# Altium footprint library auto_threader_lib.PcbLib: 21 footprints (part 2 of 2)
Each footprint in its own frame and in the unit in brackets; x right, y up, seen from the top. Pads: shape width x height; smd on the part's side, far side on the other; paste and mask are expansions set on the pad; w line width, h text height; cw(c..) or ccw(c..) is an arc to the next point about the centre after c.
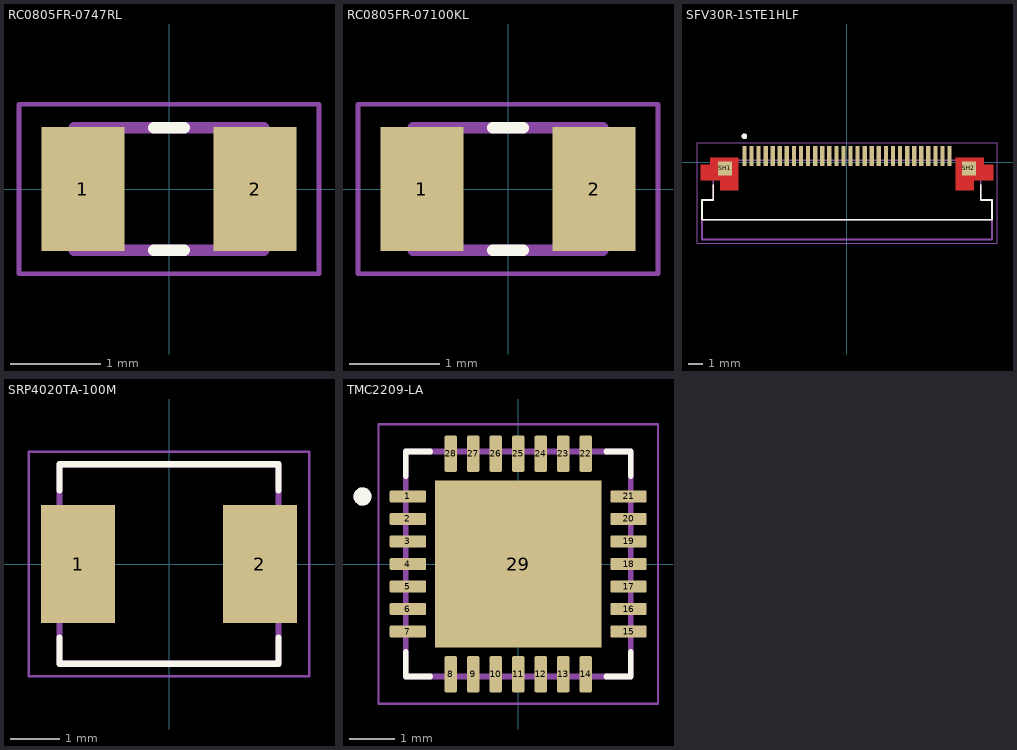
[diagram p1: the footprints below, top view; thin cyan lines are the x and y axes]

## RC0805FR-0747RL [mm]
pads (2):
  rect 0.92x1.38 smd: 1(-0.955,0) 2(0.955,0)
Top Overlay:
  lines w0.127: -0.17,-0.68 0.17,-0.68 ; -0.17,0.68 0.17,0.68
Mechanical 13:
  lines w0.127: -1.05,-0.68 -1.05,0.68 1.05,0.68 1.05,-0.68 -1.05,-0.68
Mechanical 15:
  lines w0.05: -1.665,-0.94 -1.665,0.94 1.665,0.94 1.665,-0.94 -1.665,-0.94
3D body "step_temp.STEP": height 0.6, standoff 0, extent -1,-0.625 1,0.625

## RC0805FR-07100KL [mm]
pads (2):
  rect 0.92x1.38 smd: 1(-0.955,0) 2(0.955,0)
Top Overlay:
  lines w0.127: -0.17,-0.68 0.17,-0.68 ; -0.17,0.68 0.17,0.68
Mechanical 13:
  lines w0.127: -1.05,-0.68 -1.05,0.68 1.05,0.68 1.05,-0.68 -1.05,-0.68
Mechanical 15:
  lines w0.05: -1.665,-0.94 -1.665,0.94 1.665,0.94 1.665,-0.94 -1.665,-0.94
3D body "step_temp.STEP": height 0.6, standoff 0, extent -1,-0.625 1,0.625

## SFV30R-1STE1HLF [mm]
pads (32):
  rect 0.3x1.4 smd: 1(-7.25,0.435) 2(-6.75,0.435) 3(-6.25,0.435) 4(-5.75,0.435) 5(-5.25,0.435) 6(-4.75,0.435) 7(-4.25,0.435) 8(-3.75,0.435) 9(-3.25,0.435) 10(-2.75,0.435) 11(-2.25,0.435) 12(-1.75,0.435) 13(-1.25,0.435) 14(-0.75,0.435) 15(-0.25,0.435) 16(0.25,0.435) 17(0.75,0.435) 18(1.25,0.435) 19(1.75,0.435) 20(2.25,0.435) 21(2.75,0.435) 22(3.25,0.435) 23(3.75,0.435) 24(4.25,0.435) 25(4.75,0.435) 26(5.25,0.435) 27(5.75,0.435) 28(6.25,0.435) 29(6.75,0.435) 30(7.25,0.435)
  rect 1x1 smd paste-1 mask+0: SH1(-8.62,-0.435) SH2(8.62,-0.435)
Top Layer:
  region: -7.7,-1.965 -8.95,-1.965 -8.95,-1.265 -10.35,-1.265 -10.35,-0.165 -9.65,-0.165 -9.65,0.335 -7.7,0.335
  region: 9.65,-0.165 10.35,-0.165 10.35,-1.265 8.95,-1.265 8.95,-1.965 7.7,-1.965 7.7,0.335 9.65,0.335
Top Overlay:
  circle w0.2: c-7.25,1.835 r0.1
  lines w0.127: -9.45,-1.585 -9.45,-2.665 -10.25,-2.665 -10.25,-4.065 10.25,-4.065 10.25,-2.665 9.45,-2.665 9.45,-1.585
Top Paste:
  region: -7.7,-1.965 -8.95,-1.965 -8.95,-1.265 -10.35,-1.265 -10.35,-0.165 -9.65,-0.165 -9.65,0.335 -7.7,0.335
  region: 9.65,-0.165 10.35,-0.165 10.35,-1.265 8.95,-1.265 8.95,-1.965 7.7,-1.965 7.7,0.335 9.65,0.335
Top Solder:
  region: -7.6,-2.065 -9.05,-2.065 -9.05,-1.365 -10.45,-1.365 -10.45,-0.065 -9.75,-0.065 -9.75,0.435 -7.6,0.435
  region: 9.75,-0.065 10.45,-0.065 10.45,-1.365 9.05,-1.365 9.05,-2.065 7.6,-2.065 7.6,0.435 9.75,0.435
Mechanical 13:
  circle w0.2: c-7.25,1.835 r0.1
  lines w0.127: -10.25,-4.065 -10.25,-5.465 10.25,-5.465 10.25,-4.065 ; -10.25,-4.065 -10.25,-2.665 -9.45,-2.665 -9.45,0.135 9.45,0.135 9.45,-2.665 10.25,-2.665 10.25,-4.065 ; -10.25,-4.065 10.25,-4.065
Mechanical 15:
  lines w0.05: -10.6,-5.715 10.6,-5.715 10.6,1.385 -10.6,1.385 -10.6,-5.715
3D body "step_temp.STEP": height 1.87, standoff 0, extent -10.25,-4.065 10.25,0.835

## SRP4020TA-100M [mm]
pads (2):
  rect 1.5x2.4 smd: 1(-1.85,0) 2(1.85,0)
Top Overlay:
  lines w0.127: -2.225,-1.5 -2.225,-2.03 2.225,-2.03 2.225,-1.5 ; -2.225,1.5 -2.225,2.03 2.225,2.03 2.225,1.5
Mechanical 13:
  lines w0.127: -2.225,-2.03 -2.225,2.03 2.225,2.03 2.225,-2.03 -2.225,-2.03
Mechanical 15:
  lines w0.05: -2.85,-2.28 -2.85,2.28 2.85,2.28 2.85,-2.28 -2.85,-2.28
3D body "SRP4020TA-100M.STEP": height 2.01, standoff 0.01, extent -2.225,-2.03 2.225,2.03

## TMC2209-LA [mm]
pads (29):
  rrect25% 0.81x0.27 smd: 1(-2.45,1.5) 2(-2.45,1) 3(-2.45,0.5) 4(-2.45,0) 5(-2.45,-0.5) 6(-2.45,-1) 7(-2.45,-1.5) 15(2.45,-1.5) 16(2.45,-1) 17(2.45,-0.5) 18(2.45,0) 19(2.45,0.5) 20(2.45,1) 21(2.45,1.5)
  rrect25% 0.27x0.81 smd: 8(-1.5,-2.45) 9(-1,-2.45) 10(-0.5,-2.45) 11(0,-2.45) 12(0.5,-2.45) 13(1,-2.45) 14(1.5,-2.45) 22(1.5,2.45) 23(1,2.45) 24(0.5,2.45) 25(0,2.45) 26(-0.5,2.45) 27(-1,2.45) 28(-1.5,2.45)
  rect 3.7x3.7 smd paste-0.68: 29(0,0)
Top Overlay:
  circle w0.2: c-3.46,1.5 r0.1
  lines w0.127: -2.5,-1.955 -2.5,-2.5 -1.955,-2.5 ; -2.5,1.955 -2.5,2.5 -1.955,2.5 ; 1.955,-2.5 2.5,-2.5 2.5,-1.955 ; 1.955,2.5 2.5,2.5 2.5,1.955
Mechanical 13:
  circle w0.2: c-3.46,1.5 r0.1
  lines w0.127: -2.5,-2.5 2.5,-2.5 2.5,2.5 -2.5,2.5 -2.5,-2.5
Mechanical 15:
  lines w0.05: -3.105,-3.105 3.105,-3.105 3.105,3.105 -3.105,3.105 -3.105,-3.105
3D body "step_temp.STEP": height 0.9, standoff 0, extent -2.5,-2.5 2.5,2.5